# EAGLE library part PIC18F6390-X/PT (library _MyComponents)
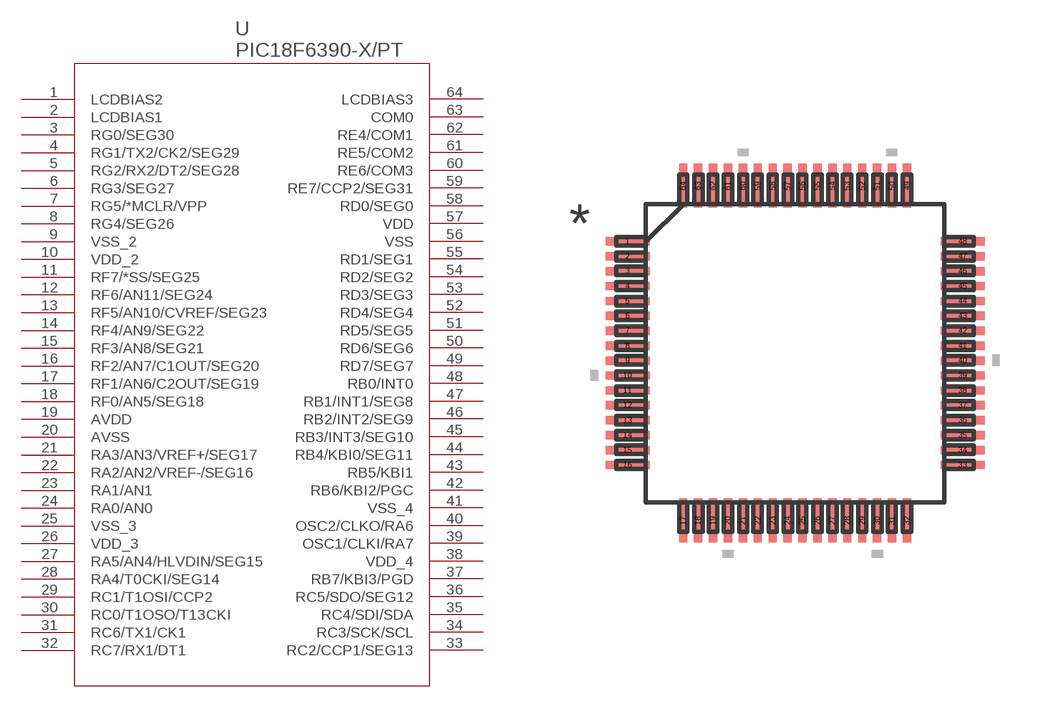
[diagram p16: symbol with the pads of TQFP64_10X10MC; footprint TQFP64_10X10MC]

Designator prefix U

## PIC18F6390-X/PT  [TQFP64_10X10MC]
1  LCDBIAS2  pas
2  LCDBIAS1  pas
3  RG0/SEG30  pas
4  RG1/TX2/CK2/SEG29  pas
5  RG2/RX2/DT2/SEG28  pas
6  RG3/SEG27  pas
7  RG5/*MCLR/VPP  pas
8  RG4/SEG26  pas
9  VSS_2  pas
10  VDD_2  pas
11  RF7/*SS/SEG25  pas
12  RF6/AN11/SEG24  pas
13  RF5/AN10/CVREF/SEG23  pas
14  RF4/AN9/SEG22  pas
15  RF3/AN8/SEG21  pas
16  RF2/AN7/C1OUT/SEG20  pas
17  RF1/AN6/C2OUT/SEG19  pas
18  RF0/AN5/SEG18  pas
19  AVDD  pas
20  AVSS  pas
21  RA3/AN3/VREF+/SEG17  pas
22  RA2/AN2/VREF-/SEG16  pas
23  RA1/AN1  pas
24  RA0/AN0  pas
25  VSS_3  pas
26  VDD_3  pas
27  RA5/AN4/HLVDIN/SEG15  pas
28  RA4/T0CKI/SEG14  pas
29  RC1/T1OSI/CCP2  pas
30  RC0/T1OSO/T13CKI  pas
31  RC6/TX1/CK1  pas
32  RC7/RX1/DT1  pas
33  RC2/CCP1/SEG13  pas
34  RC3/SCK/SCL  pas
35  RC4/SDI/SDA  pas
36  RC5/SDO/SEG12  pas
37  RB7/KBI3/PGD  pas
38  VDD_4  pas
39  OSC1/CLKI/RA7  pas
40  OSC2/CLKO/RA6  pas
41  VSS_4  pas
42  RB6/KBI2/PGC  pas
43  RB5/KBI1  pas
44  RB4/KBI0/SEG11  pas
45  RB3/INT3/SEG10  pas
46  RB2/INT2/SEG9  pas
47  RB1/INT1/SEG8  pas
48  RB0/INT0  pas
49  RD7/SEG7  pas
50  RD6/SEG6  pas
51  RD5/SEG5  pas
52  RD4/SEG4  pas
53  RD3/SEG3  pas
54  RD2/SEG2  pas
55  RD1/SEG1  pas
56  VSS  pas
57  VDD  pas
58  RD0/SEG0  pas
59  RE7/CCP2/SEG31  pas
60  RE6/COM3  pas
61  RE5/COM2  pas
62  RE4/COM1  pas
63  COM0  pas
64  LCDBIAS3  pas

## Footprint TQFP64_10X10MC (pad centres in mm)
smd 1.473 x 0.279: 1 -5.613,3.75; 2 -5.613,3.25; 3 -5.613,2.75; 4 -5.613,2.25; 5 -5.613,1.75; 6 -5.613,1.25; 7 -5.613,0.75; 8 -5.613,0.25; 9 -5.613,-0.25; 10 -5.613,-0.75; 11 -5.613,-1.25; 12 -5.613,-1.75; 13 -5.613,-2.25; 14 -5.613,-2.75; 15 -5.613,-3.25; 16 -5.613,-3.75; 33 5.613,-3.75; 34 5.613,-3.25; 35 5.613,-2.75; 36 5.613,-2.25; 37 5.613,-1.75; 38 5.613,-1.25; 39 5.613,-0.75; 40 5.613,-0.25; 41 5.613,0.25; 42 5.613,0.75; 43 5.613,1.25; 44 5.613,1.75; 45 5.613,2.25; 46 5.613,2.75; 47 5.613,3.25; 48 5.613,3.75
smd 0.279 x 1.473: 17 -3.75,-5.613; 18 -3.25,-5.613; 19 -2.75,-5.613; 20 -2.25,-5.613; 21 -1.75,-5.613; 22 -1.25,-5.613; 23 -0.75,-5.613; 24 -0.25,-5.613; 25 0.25,-5.613; 26 0.75,-5.613; 27 1.25,-5.613; 28 1.75,-5.613; 29 2.25,-5.613; 30 2.75,-5.613; 31 3.25,-5.613; 32 3.75,-5.613; 49 3.75,5.613; 50 3.25,5.613; 51 2.75,5.613; 52 2.25,5.613; 53 1.75,5.613; 54 1.25,5.613; 55 0.75,5.613; 56 0.25,5.613; 57 -0.25,5.613; 58 -0.75,5.613; 59 -1.25,5.613; 60 -1.75,5.613; 61 -2.25,5.613; 62 -2.75,5.613; 63 -3.25,5.613; 64 -3.75,5.613